# EAGLE library part STC3100LST (library oresat-batteries)
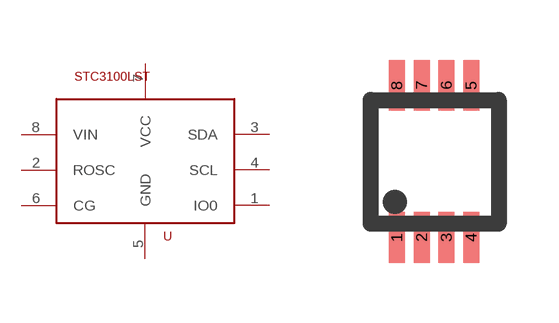
[diagram p7: symbol with the pads of MINISO-8; footprint MINISO-8]

Designator prefix -

## STC3100LST  [MINISO-8]
1  IO0
2  ROSC
3  SDA
4  SCL
5  GND
6  CG
7  VCC
8  VIN

## Footprint MINISO-8 (pad centres in mm)
smd 0.4 x 1.27: 1 -0.945,-1.89; 2 -0.325,-1.89; 3 0.295,-1.89; 4 0.915,-1.89; 5 0.915,1.92; 6 0.295,1.92; 7 -0.325,1.92; 8 -0.945,1.92